# EAGLE library part SN75157 (library ti)
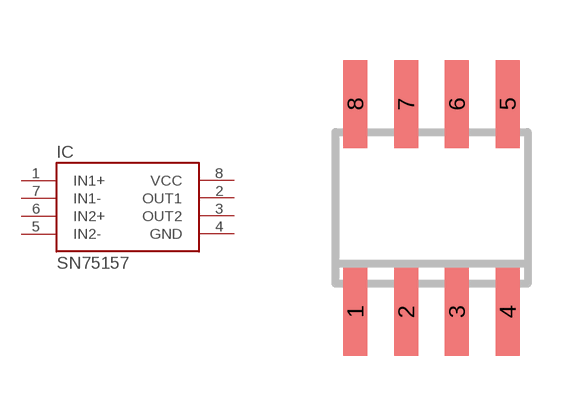
[diagram p10: symbol with the pads of SOIC-8; footprint SOIC-8]

Designator prefix IC

## SN75157D  [SOIC-8]
1  IN1+  pas
2  OUT1  pas
3  OUT2  pas
4  GND  pas
5  IN2-  pas
6  IN2+  pas
7  IN1-  pas
8  VCC  pas

## Footprint SOIC-8 (pad centres in mm)
smd 0.6 x 2.2: 1 -1.905,-2.6; 2 -0.635,-2.6; 3 0.635,-2.6; 4 1.905,-2.6; 5 1.905,2.6; 6 0.635,2.6; 7 -0.635,2.6; 8 -1.905,2.6